# Altium schematic symbol library SCH - ARM CORTEX - STM STM8S103F2Ux.SchLib: 1 symbol
Pins are listed as number, name and electrical type; pins without a type are passive.

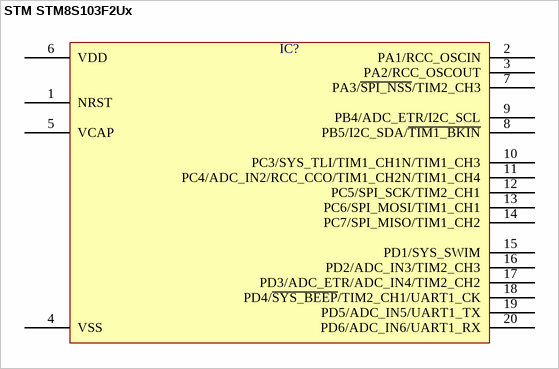
[diagram p0: symbol STM STM8S103F2Ux]

## STM STM8S103F2Ux
designator IC?  (value not drawn)
pins: 1 NRST, 2 PA1/RCC_OSCIN, 3 PA2/RCC_OSCOUT, 4 VSS, 5 VCAP, 6 VDD, 7 PA3/~{SPI_NSS}/TIM2_CH3, 8 PB5/I2C_SDA/~{TIM1_BKIN}, 9 PB4/ADC_ETR/I2C_SCL, 10 PC3/SYS_TLI/TIM1_CH1N/TIM1_CH3, 11 PC4/ADC_IN2/RCC_CCO/TIM1_CH2N/TIM1_CH4, 12 PC5/SPI_SCK/TIM2_CH1, 13 PC6/SPI_MOSI/TIM1_CH1, 14 PC7/SPI_MISO/TIM1_CH2, 15 PD1/SYS_SWIM, 16 PD2/ADC_IN3/TIM2_CH3, 17 PD3/ADC_ETR/ADC_IN4/TIM2_CH2, 18 PD4/~{SYS_BEEP}/TIM2_CH1/UART1_CK, 19 PD5/ADC_IN5/UART1_TX, 20 PD6/ADC_IN6/UART1_RX